# Altium footprint library qinhe模块.PcbLib: 7 footprints
Each footprint in its own frame and in the unit in brackets; x right, y up, seen from the top. Pads: shape width x height; smd on the part's side, far side on the other; paste and mask are expansions set on the pad; w line width, h text height; cw(c..) or ccw(c..) is an arc to the next point about the centre after c.
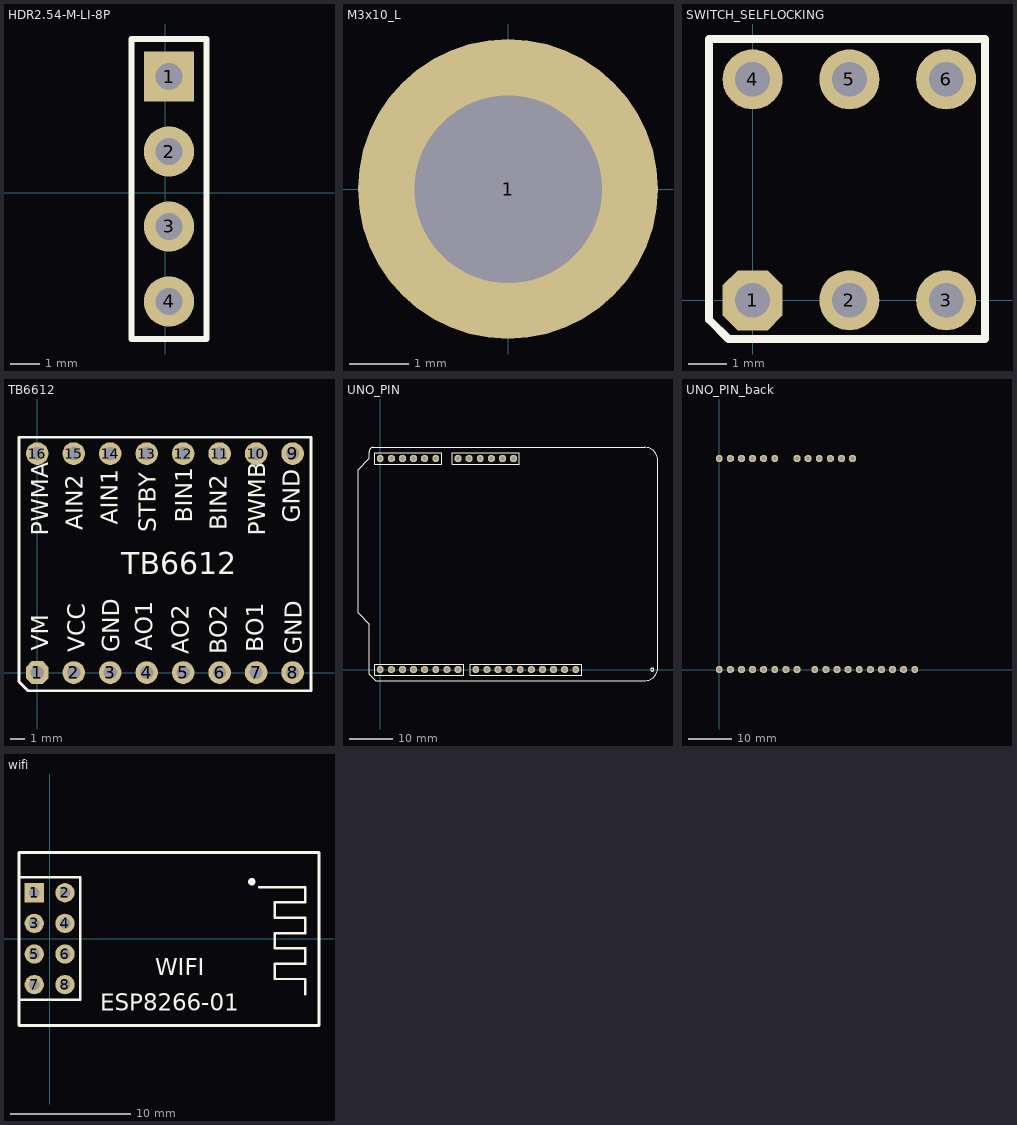
[diagram p0: the footprints below, top view; thin cyan lines are the x and y axes]

## HDR2.54-M-LI-8P [mm] "排母，8脚"
pads (4):
  rect 1.7x1.7 hole 0.9: 1(0.127,3.937)
  round 1.7 hole 0.9: 2(0.127,1.397) 3(0.127,-1.143) 4(0.127,-3.683)
Top Overlay:
  lines w0.2: -1.143,-4.953 -1.143,5.207 1.397,5.207 1.397,-4.953 -1.143,-4.953
3D body "HDR2.54-1P_M.STEP": height 8.5, standoff -3, extent -1.143,-2.413 1.397,0.127
3D body "HDR2.54-1P_M.STEP": height 8.5, standoff -3, extent -1.143,2.667 1.397,5.207
3D body "HDR2.54-1P_M.STEP": height 8.5, standoff -3, extent -1.143,0.127 1.397,2.667
3D body "HDR2.54-1P_M.STEP": height 8.5, standoff -3, extent -1.143,-4.953 1.397,-2.413

## M3x10_L [mil] "M3铜柱，长：10mm"
pads (1):
  round 200 hole 125: 1(0,0)
3D body "M3x10.STEP": height 395.67, standoff 1.96, extent -106.22,-92.52 106.22,92.52

## SWITCH_SELFLOCKING [mil]
pads (6):
  oct 62x62 hole 36: 1(0,0)
  round 62 hole 36: 2(100,0) 3(200,0) 4(0,228.35) 5(100,228.35) 6(200,228.35)
Top Overlay:
  lines w8: -45,-20 -25,-40 240,-40 240,270 -45,270 -45,-20
3D body "SLSW 8x8.STEP": height 515.75, standoff -125.98, extent -54.96,-42.48 260,272.48

## TB6612 [mil]
pads (16):
  oct 62x62 hole 36: 1(0,0)
  round 62 hole 36: 2(100,0) 3(200,0) 4(300,0) 5(400,0) 6(500,0) 7(600,0) 8(700,0) 9(700,600) 10(600,600) 11(500,600) 12(400,600) 13(300,600) 14(200,600) 15(100,600) 16(0,600)
Top Overlay:
  lines w8: -50,-25 -50,645 750,645 750,-50 -25,-50 -50,-25
  text "AIN2" at 125,390 h47.24
  text "AIN1" at 220,405 h47.24
  text "STBY" at 325,385 h47.24
  text "BIN1" at 425,410 h47.24
  text "BIN2" at 520,390 h47.24
  text "PWMB" at 625,375 h47.24
  text "GND" at 720,410 h47.24
  text "GND" at 725,50 h47.24
  text "BO1" at 620,55 h47.24
  text "BO2" at 520,50 h47.24
  text "AO2" at 415,50 h47.24
  text "AO1" at 315,60 h47.24
  text "GND" at 225,55 h47.24
  text "VCC" at 130,55 h47.24
  text "TB6612" at 230,270 h60
  text "VM" at 30,60 h47.24
  text "PWMA" at 30,375 h47.24
3D body "HDR2.54-1P_M.STEP": height 334.65, standoff -118.11, extent -50,-50 50,50
3D body "HDR2.54-1P_M.STEP": height 334.65, standoff -118.11, extent 50,-50 150,50
3D body "HDR2.54-1P_M.STEP": height 334.65, standoff -118.11, extent 150,-50 250,50
3D body "HDR2.54-1P_M.STEP": height 334.65, standoff -118.11, extent 250,-50 350,50
3D body "HDR2.54-1P_M.STEP": height 334.65, standoff -118.11, extent 350,-50 450,50
3D body "HDR2.54-1P_M.STEP": height 334.65, standoff -118.11, extent 450,-50 550,50
3D body "HDR2.54-1P_M.STEP": height 334.65, standoff -118.11, extent 550,-50 650,50
3D body "HDR2.54-1P_M.STEP": height 334.65, standoff -118.11, extent 650,-50 750,50
3D body "HDR2.54-1P_M.STEP": height 334.65, standoff -118.11, extent 650,550 750,650
3D body "HDR2.54-1P_M.STEP": height 334.65, standoff -118.11, extent 550,550 650,650
3D body "HDR2.54-1P_M.STEP": height 334.65, standoff -118.11, extent 450,550 550,650
3D body "HDR2.54-1P_M.STEP": height 334.65, standoff -118.11, extent 350,550 450,650
3D body "HDR2.54-1P_M.STEP": height 334.65, standoff -118.11, extent 250,550 350,650
3D body "HDR2.54-1P_M.STEP": height 334.65, standoff -118.11, extent 150,550 250,650
3D body "HDR2.54-1P_M.STEP": height 334.65, standoff -118.11, extent 50,550 150,650
3D body "HDR2.54-1P_M.STEP": height 334.65, standoff -118.11, extent -50,550 50,650

## UNO_PIN [mil]
height 170.08
pads (31):
  oct 62x62 hole 35: 0(0,0) 0(0,0) 1(100,0) 2(200,0) 3(300,0) 4(400,0) 5(500,0) 6(600,0) 7(700,0) 8(860,0) 9(960,0) 10(1060,0) 11(1160,0) 12(1260,0) 13(1360,0) 14(1460,0) 15(1560,0) 16(1660,0) 17(1760,0) 18(0,1900) 19(100,1900) 20(200,1900) 21(300,1900) 22(400,1900) 23(500,1900) 24(700,1900) 25(800,1900) 26(900,1900) 27(1000,1900) 28(1100,1900) 29(1200,1900)
Top Overlay:
  lines w8: -50,-50 -50,50 751.94,50 751.94,-50 -50,-50 ; -50,1850 552,1850 552,1950 -50,1950 -50,1850 ; 650,1850 650,1950 1252,1950 1252,1850 650,1850 ; 810,-50 1811.6,-50 1811.6,50 810,50 810,-50
  lines w10: 2462.68,2.81 ccw(c2448.98,0) 2462.97,0 ; -200,510 -200,1800 -100,1900 -100,1960.63 cw(c-60.63,1960.63) -60.63,2000 2380,2000 cw(c2380,1880) 2500,1880 2500,20 cw(c2380,20) 2380,-100 -40,-100 -100,-40 -100,410 -200,510
3D body "HDR2.54-1P_M.STEP": height 334.65, standoff -118.11, extent 1710,-50 1810,50
3D body "HDR2.54-1P_M.STEP": height 334.65, standoff -118.11, extent 1610,-50 1710,50
3D body "HDR2.54-1P_M.STEP": height 334.65, standoff -118.11, extent 1510,-50 1610,50
3D body "HDR2.54-1P_M.STEP": height 334.65, standoff -118.11, extent 1410,-50 1510,50
3D body "HDR2.54-1P_M.STEP": height 334.65, standoff -118.11, extent 1310,-50 1410,50
3D body "HDR2.54-1P_M.STEP": height 334.65, standoff -118.11, extent 1210,-50 1310,50
3D body "HDR2.54-1P_M.STEP": height 334.65, standoff -118.11, extent 1110,-50 1210,50
3D body "HDR2.54-1P_M.STEP": height 334.65, standoff -118.11, extent 1010,-50 1110,50
3D body "HDR2.54-1P_M.STEP": height 334.65, standoff -118.11, extent 910,-50 1010,50
3D body "HDR2.54-1P_M.STEP": height 334.65, standoff -118.11, extent 810,-50 910,50
3D body "HDR2.54-1P_M.STEP": height 334.65, standoff -118.11, extent 650,-50 750,50
3D body "HDR2.54-1P_M.STEP": height 334.65, standoff -118.11, extent 550,-50 650,50
3D body "HDR2.54-1P_M.STEP": height 334.65, standoff -118.11, extent 450,-50 550,50
3D body "HDR2.54-1P_M.STEP": height 334.65, standoff -118.11, extent 350,-50 450,50
3D body "HDR2.54-1P_M.STEP": height 334.65, standoff -118.11, extent 250,-50 350,50
3D body "HDR2.54-1P_M.STEP": height 334.65, standoff -118.11, extent 150,-50 250,50
3D body "HDR2.54-1P_M.STEP": height 334.65, standoff -118.11, extent 50,-50 150,50
3D body "HDR2.54-1P_M.STEP": height 334.65, standoff -118.11, extent -50,-50 50,50
3D body "HDR2.54-1P_M.STEP": height 334.65, standoff -118.11, extent 1150,1850 1250,1950
3D body "HDR2.54-1P_M.STEP": height 334.65, standoff -118.11, extent 1050,1850 1150,1950
3D body "HDR2.54-1P_M.STEP": height 334.65, standoff -118.11, extent 950,1850 1050,1950
3D body "HDR2.54-1P_M.STEP": height 334.65, standoff -118.11, extent 850,1850 950,1950
3D body "HDR2.54-1P_M.STEP": height 334.65, standoff -118.11, extent 750,1850 850,1950
3D body "HDR2.54-1P_M.STEP": height 334.65, standoff -118.11, extent 650,1850 750,1950
3D body "HDR2.54-1P_M.STEP": height 334.65, standoff -118.11, extent 450,1850 550,1950
3D body "HDR2.54-1P_M.STEP": height 334.65, standoff -118.11, extent 350,1850 450,1950
3D body "HDR2.54-1P_M.STEP": height 334.65, standoff -118.11, extent 250,1850 350,1950
3D body "HDR2.54-1P_M.STEP": height 334.65, standoff -118.11, extent 150,1850 250,1950
3D body "HDR2.54-1P_M.STEP": height 334.65, standoff -118.11, extent 50,1850 150,1950
3D body "HDR2.54-1P_M.STEP": height 334.65, standoff -118.11, extent -50,1850 50,1950

## UNO_PIN_back [mil]
height 170.08
pads (31):
  oct 62x62 hole 35: 0(0,0) 0(0,0) 1(100,0) 2(200,0) 3(300,0) 4(400,0) 5(500,0) 6(600,0) 7(700,0) 8(860,0) 9(960,0) 10(1060,0) 11(1160,0) 12(1260,0) 13(1360,0) 14(1460,0) 15(1560,0) 16(1660,0) 17(1760,0) 18(0,1900) 19(100,1900) 20(200,1900) 21(300,1900) 22(400,1900) 23(500,1900) 24(700,1900) 25(800,1900) 26(900,1900) 27(1000,1900) 28(1100,1900) 29(1200,1900)
Bottom Overlay:
  lines w8: -50,-50 751.94,-50 751.94,50 -50,50 -50,-50 ; -50,1850 -50,1950 552,1950 552,1850 -50,1850 ; 650,1850 1252,1850 1252,1950 650,1950 650,1850 ; 810,-50 1811.6,-50 1811.6,50 810,50 810,-50
  lines w10: 2462.68,2.81 ccw(c2448.98,0) 2462.97,0 ; -200,510 -100,410 -100,-40 -40,-100 2380,-100 ccw(c2380,20) 2500,20 2500,1880 ccw(c2380,1880) 2380,2000 -60.63,2000 ccw(c-60.63,1960.63) -100,1960.63 -100,1900 -200,1800 -200,510
3D body "HDR2.54-1P_M.STEP": height 118.11, standoff -334.65, extent 1710,-50 1810,50
3D body "HDR2.54-1P_M.STEP": height 118.11, standoff -334.65, extent 1610,-50 1710,50
3D body "HDR2.54-1P_M.STEP": height 118.11, standoff -334.65, extent 1510,-50 1610,50
3D body "HDR2.54-1P_M.STEP": height 118.11, standoff -334.65, extent 1410,-50 1510,50
3D body "HDR2.54-1P_M.STEP": height 118.11, standoff -334.65, extent 1310,-50 1410,50
3D body "HDR2.54-1P_M.STEP": height 118.11, standoff -334.65, extent 1210,-50 1310,50
3D body "HDR2.54-1P_M.STEP": height 118.11, standoff -334.65, extent 1110,-50 1210,50
3D body "HDR2.54-1P_M.STEP": height 118.11, standoff -334.65, extent 1010,-50 1110,50
3D body "HDR2.54-1P_M.STEP": height 118.11, standoff -334.65, extent 910,-50 1010,50
3D body "HDR2.54-1P_M.STEP": height 118.11, standoff -334.65, extent 810,-50 910,50
3D body "HDR2.54-1P_M.STEP": height 118.11, standoff -334.65, extent 650,-50 750,50
3D body "HDR2.54-1P_M.STEP": height 118.11, standoff -334.65, extent 550,-50 650,50
3D body "HDR2.54-1P_M.STEP": height 118.11, standoff -334.65, extent 450,-50 550,50
3D body "HDR2.54-1P_M.STEP": height 118.11, standoff -334.65, extent 350,-50 450,50
3D body "HDR2.54-1P_M.STEP": height 118.11, standoff -334.65, extent 250,-50 350,50
3D body "HDR2.54-1P_M.STEP": height 118.11, standoff -334.65, extent 150,-50 250,50
3D body "HDR2.54-1P_M.STEP": height 118.11, standoff -334.65, extent 50,-50 150,50
3D body "HDR2.54-1P_M.STEP": height 118.11, standoff -334.65, extent -50,-50 50,50
3D body "HDR2.54-1P_M.STEP": height 118.11, standoff -334.65, extent 1150,1850 1250,1950
3D body "HDR2.54-1P_M.STEP": height 118.11, standoff -334.65, extent 1050,1850 1150,1950
3D body "HDR2.54-1P_M.STEP": height 118.11, standoff -334.65, extent 950,1850 1050,1950
3D body "HDR2.54-1P_M.STEP": height 118.11, standoff -334.65, extent 850,1850 950,1950
3D body "HDR2.54-1P_M.STEP": height 118.11, standoff -334.65, extent 750,1850 850,1950
3D body "HDR2.54-1P_M.STEP": height 118.11, standoff -334.65, extent 650,1850 750,1950
3D body "HDR2.54-1P_M.STEP": height 118.11, standoff -334.65, extent 450,1850 550,1950
3D body "HDR2.54-1P_M.STEP": height 118.11, standoff -334.65, extent 350,1850 450,1950
3D body "HDR2.54-1P_M.STEP": height 118.11, standoff -334.65, extent 250,1850 350,1950
3D body "HDR2.54-1P_M.STEP": height 118.11, standoff -334.65, extent 150,1850 250,1950
3D body "HDR2.54-1P_M.STEP": height 118.11, standoff -334.65, extent 50,1850 150,1950
3D body "HDR2.54-1P_M.STEP": height 118.11, standoff -334.65, extent -50,1850 50,1950

## wifi [mm] "双排排针，4x2脚"
pads (8):
  rect 1.6x1.6 hole 0.9: 1(-1.27,3.81)
  round 1.6 hole 0.9: 2(1.27,3.81) 3(-1.27,1.27) 4(1.27,1.27) 5(-1.27,-1.27) 6(1.27,-1.27) 7(-1.27,-3.81) 8(1.27,-3.81)
Top Overlay:
  circle w0.305: c16.764,4.724 r0.152
  lines w0.2: -2.54,-2.54 -2.54,5.08 2.54,5.08 2.54,-5.08 -2.54,-5.08 -2.54,2.328
  lines w0.203: 17.388,4.276 21.198,4.276 21.198,3.006 18.658,3.006 18.658,1.736 21.198,1.736 21.198,0.466 18.658,0.466 18.658,-0.804 21.198,-0.804 21.198,-2.074 18.658,-2.074 18.658,-3.344 21.198,-3.344 21.198,-4.614
  lines w0.254: -2.54,-7.201 22.34,-7.201 22.34,7.15 -2.54,7.15 -2.54,-7.15
  text "WIFI" at 8.763,-3.048 h1.4
  text "ESP8266-01" at 4.191,-5.969 h1.4
3D body "HDR2.54-1P_M.STEP": height 8.5, standoff -3, extent -2.54,2.54 0,5.08
3D body "HDR2.54-1P_M.STEP": height 8.5, standoff -3, extent -2.54,0 0,2.54
3D body "HDR2.54-1P_M.STEP": height 8.5, standoff -3, extent -2.54,-2.54 0,0
3D body "HDR2.54-1P_M.STEP": height 8.5, standoff -3, extent -2.54,-5.08 0,-2.54
3D body "HDR2.54-1P_M.STEP": height 8.5, standoff -3, extent 0,2.54 2.54,5.08
3D body "HDR2.54-1P_M.STEP": height 8.5, standoff -3, extent 0,0 2.54,2.54
3D body "HDR2.54-1P_M.STEP": height 8.5, standoff -3, extent 0,-2.54 2.54,0
3D body "HDR2.54-1P_M.STEP": height 8.5, standoff -3, extent 0,-5.08 2.54,-2.54